# Altium schematic symbol library Altium_Example.SchLib: 4 symbols
Pins are listed as number, name and electrical type; pins without a type are passive.

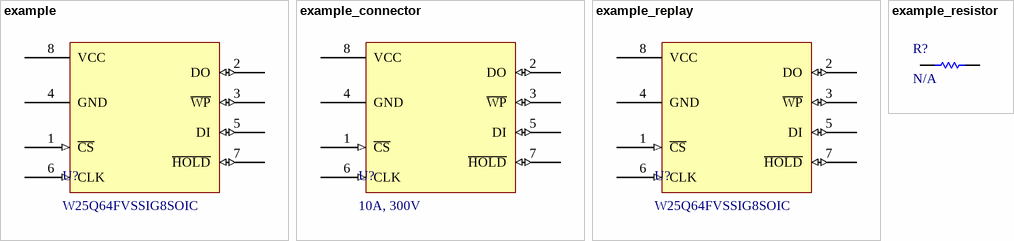
[diagram p0: symbols example to example_resistor]

## example
designator U?, comment W25Q64FVSSIG8SOIC
example; Manufacturer: Winbond Electronics; Memory Size: 64 Mbit; Supply Voltage: 2.7 V - 3.6 V; Active Read Current - Max: 4 mA; Interface Type: SPI - Quad I/O, QPI; Maximum Clock Frequency: 416 MHz; Data Bus Width: 8 bit; IC Name: W25Q64FVSSIG; Mounting Style: SMD/SMT; Package: 8SOIC; ComponentLink1Description: Datasheet link; ComponentLink1URL: N/A; ComponentLink2Description: Supplier 1 URL; ComponentLink2URL: N/A; ComponentLink3Description: Supplier 2 URL; ComponentLink3URL: N/A; ComponentLink4Description: Supplier 3 URL; ComponentLink4URL: N/A; Supplier 1 Name: Mouser; Supplier 1 SN: N/A; Supplier 1 URL: N/A; Supplier 2 Name: Digi-Key; Supplier 2 SN: N/A; Supplier 2 URL: N/A; Supplier 3 Name: thegioiic; Supplier 3 SN: N/A; Supplier 3 URL: N/A; Value: W25Q64FVSSIG8SOIC; Voltage Input Maximum: N/A; Voltage Input: N/A; Voltage Output: N/A; Voltage Input Minimum: N/A; Current Output: N/A
footprint W25Qxx8SOIC (SOIC, 8-Leads, Body 5.28x5.23mm, Pitch 1.27mm, IPC Medium Density)
pins: 1 ~{CS} (in), 2 DO (io), 3 ~{WP} (io), 4 GND (power), 5 DI (io), 6 CLK (in), 7 ~{HOLD} (io), 8 VCC (power)

## example_connector
designator U?, comment 10A, 300V
example_connector; Manufacturer: N/A; ComponentLink1Description: Datasheet link; ComponentLink1URL: N/A; ComponentLink2Description: Supplier 1 URL; ComponentLink2URL: N/A; ComponentLink3Description: Supplier 2 URL; ComponentLink3URL: N/A; ComponentLink4Description: Supplier 3 URL; ComponentLink4URL: N/A; Supplier 1 Name: Mouser; Supplier 1 SN: N/A; Supplier 1 URL: N/A; Supplier 2 Name: Digi-Key; Supplier 2 SN: N/A; Supplier 2 URL: N/A; Supplier 3 Name: thegioiic; Supplier 3 SN: N/A; Supplier 3 URL: N/A; Value: 10A, 300V; Manufacturer Part Number: N/A; Match Code: N/A; Modularity: N/A; Mount: N/A; Number of Pins: N/A; Number of Rows: N/A; Operating Temperature Max: N/A; Operating Temperature Min: N/A; Orientation: N/A; Packaging: N/A; Pitch: N/A; Rated Current: N/A; Working Voltage: N/A
footprint W25Qxx8SOIC (SOIC, 8-Leads, Body 5.28x5.23mm, Pitch 1.27mm, IPC Medium Density)
pins: 1 ~{CS} (in), 2 DO (io), 3 ~{WP} (io), 4 GND (power), 5 DI (io), 6 CLK (in), 7 ~{HOLD} (io), 8 VCC (power)

## example_replay
designator U?, comment W25Q64FVSSIG8SOIC
example_replay; ComponentLink1Description: Datasheet link; ComponentLink1URL: N/A; ComponentLink2Description: Supplier 1 URL; ComponentLink2URL: N/A; ComponentLink3Description: Supplier 2 URL; ComponentLink3URL: N/A; ComponentLink4Description: Supplier 3 URL; ComponentLink4URL: N/A; Supplier 1 Name: Mouser; Supplier 1 SN: N/A; Supplier 1 URL: N/A; Supplier 2 Name: Digi-Key; Supplier 2 SN: N/A; Supplier 2 URL: N/A; Supplier 3 Name: thegioiic; Supplier 3 SN: N/A; Supplier 3 URL: N/A; Value: W25Q64FVSSIG8SOIC; Coil Current: N/A; Coil Resistance: N/A; Coil Voltage: N/A; Contact Current Rating: N/A; Power Consumption: N/A; Associated Relay Series: N/A
footprint W25Qxx8SOIC (SOIC, 8-Leads, Body 5.28x5.23mm, Pitch 1.27mm, IPC Medium Density)
pins: 1 ~{CS} (in), 2 DO (io), 3 ~{WP} (io), 4 GND (power), 5 DI (io), 6 CLK (in), 7 ~{HOLD} (io), 8 VCC (power)

## example_resistor
designator R?, comment N/A
example_resistor; Resistance: N/A; Resistance Tolerance: N/A; Size: N/A; Rated Power: N/A; Supplier 1 Name: N/A; Supplier 1 SN: N/A; Supplier 1 URL: N/A; Supplier 2 Name: Digi-Key; Supplier 2 SN: N/A; Supplier 2 URL: N/A; Mounting Technology: N/A; Supplier 3 Name: thegioiic; Supplier 3 SN: N/A; Supplier 3 URL: N/A; Manufacture  Name: N/A; Manufacture  SN: N/A; Value: N/A; ComponentLink1Description: Datasheet; ComponentLink1URL: N/A; ComponentLink2Description: Supplier 1 URL; ComponentLink2URL: N/A; ComponentLink3Description: Supplier 2 URL; ComponentLink3URL: N/A; ComponentLink4Description: Supplier 3 URL; ComponentLink4URL: N/A
footprint RESISTOR_0805 (Chip Resistor, 2-Leads, Body 2,00x1,20mm, IPC Medium Density)
pins: 1, 2